# EAGLE library part TPD4E_ESD_TYPEC (library vikc-diodes)
ESD Protection for USB type-C conncector
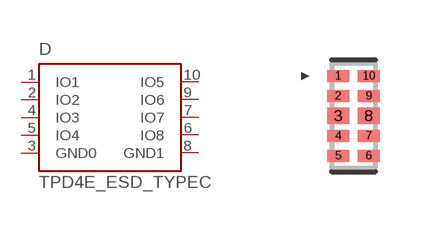
[diagram p0: symbol with the pads of DIO_TPD4E02B04DQAR; footprint DIO_TPD4E02B04DQAR]

Designator prefix D

## TPD4E_ESD_TYPEC  [DIO_TPD4E02B04DQAR]
1  IO1
2  IO2
3  GND0  pwr
4  IO3
5  IO4
6  IO8
7  IO7
8  GND1  pwr
9  IO6
10  IO5

## Footprint DIO_TPD4E02B04DQAR (pad centres in mm)
smd 0.55 x 0.3: 1 -0.385,1; 2 -0.385,0.5; 4 -0.385,-0.5; 5 -0.385,-1; 6 0.385,-1; 7 0.385,-0.5; 9 0.385,0.5; 10 0.385,1
smd 0.55 x 0.4: 3 -0.385,0; 8 0.385,0